# EAGLE library part 74HC4067 (library 1dah)
16 ch MUX
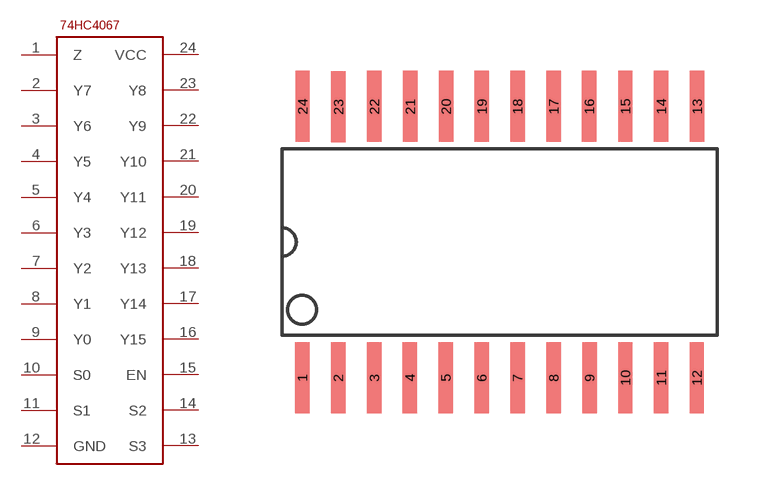
[diagram p9: symbol with the pads of SO24; footprint SO24]

Designator prefix -

## 74HC4067  [SO24]
1  Z
2  Y7
3  Y6
4  Y5
5  Y4
6  Y3
7  Y2
8  Y1
9  Y0
10  S0
11  S1
12  GND
13  S3
14  S2
15  EN
16  Y15
17  Y14
18  Y13
19  Y12
20  Y11
21  Y10
22  Y9
23  Y8
24  VCC

## Footprint SO24 (pad centres in mm)
smd 0.51 x 2.51: 1 -6.99,-4.8; 2 -5.72,-4.8; 3 -4.44,-4.8; 4 -3.18,-4.8; 5 -1.91,-4.8; 6 -0.64,-4.8; 7 0.63,-4.8; 8 1.91,-4.8; 9 3.18,-4.8; 10 4.45,-4.8; 11 5.72,-4.8; 12 6.98,-4.8; 13 6.99,4.8; 14 5.72,4.8; 15 4.45,4.8; 16 3.17,4.8; 17 1.91,4.8; 18 0.63,4.8; 19 -0.63,4.8; 20 -1.9,4.8; 21 -3.17,4.8; 22 -4.44,4.8; 23 -5.71,4.79; 24 -6.98,4.8